# Altium schematic symbol library can_bus_ics.SchLib: 2 symbols
Pins are listed as number, name and electrical type; pins without a type are passive.

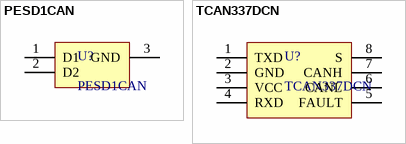
[diagram p0: symbols PESD1CAN to TCAN337DCN]

## PESD1CAN
designator U?
CAN bus ESD protection diode; Manufacturer: Nexperia; Value: PESD1CAN; Part Number: PESD1CAN
footprint PESD1CAN_SOT23_3 (SOT23, 3-Leads, Body 2,90x2,30mm, Pitch 0,95mm, IPC Medium Density)
pins: 1 D1, 2 D2, 3 GND

## TCAN337DCN
designator U?
Texas Instruments 3.3-V CAN transceiver with CAN FD support. SOT-32 package.; Value: TCAN337DCN; Part Number: TCAN337DCN; Manufacturer: Texas Instruments
footprint TCAN337DCN_SOT23_8 (SOT23, 8-Leads, Body 2,90x1,60mm, Pitch 0,65mm, IPC Medium Density)
pins: 1 TXD, 2 GND, 3 VCC, 4 RXD, 5 FAULT, 6 CANL, 7 CANH, 8 S